# Altium integrated library Linear Technology Power Management PMIC Multifunction.IntLib: 360 symbols (part 10 of 42)
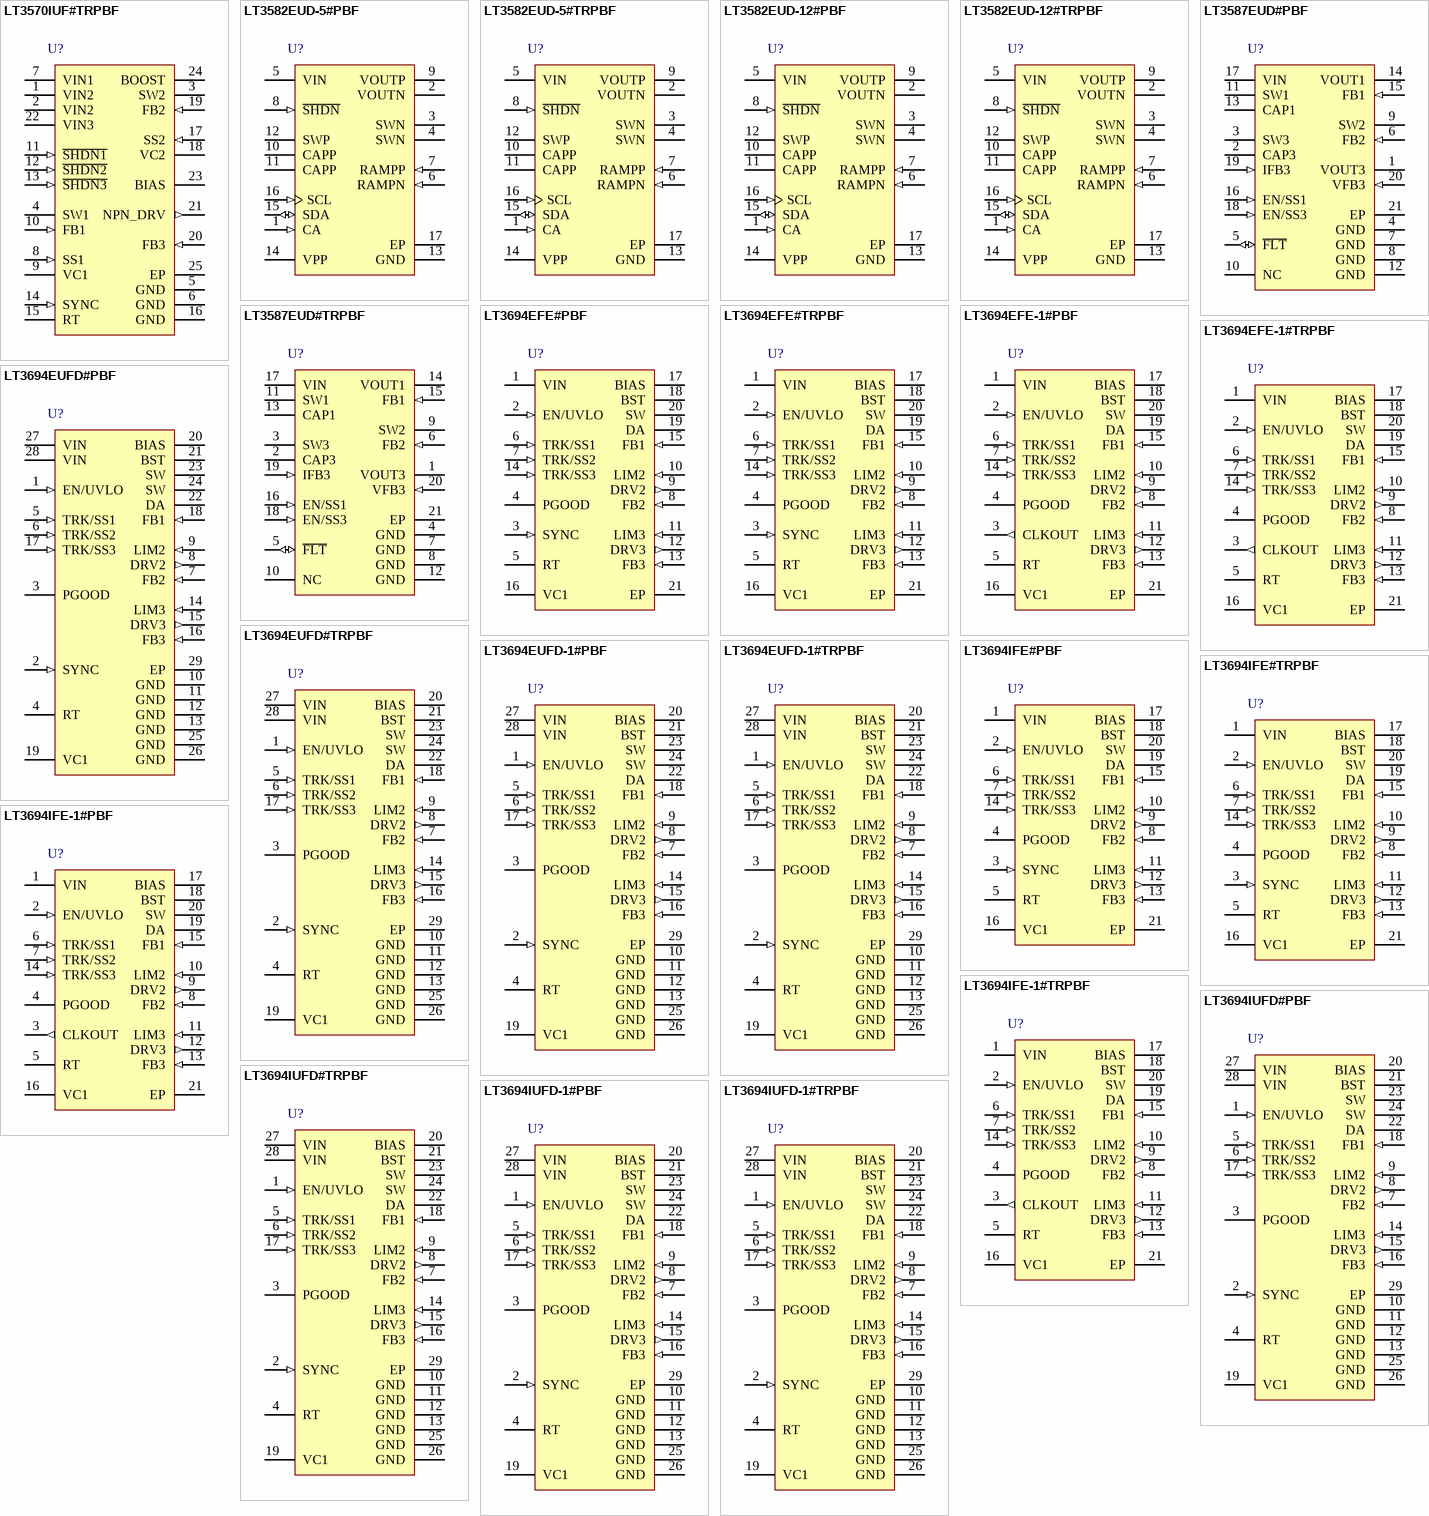
[diagram p27: symbols LT3570IUF#TRPBF to LT3694IUFD-1#TRPBF]

## LT3694EUFD-1#PBF
designator U?
2.6 A Monolithic Buck Regulator with Dual LDO, 4 to 36 V Vin, 28-pin QFN (UFD-28), -40 to 125 degC, Pb-Free; Manufacturer: Linear Technology; PartNumber: LT3694EUFD-1#PBF; Number of Outputs: 3; Vin Max(V): 36; Vin Min(V): 4; DatasheetVersion: Rev. B; PackageVersion: Rev. B, 06/2010; PackageReference: UFD-28; PackageDescription: 28-Pin Plastic QFN, Body 5 x 4 mm, Pitch 0.5 mm; Supplier 1: Digi-Key; Supplier Part Number 1: LT3694EUFD-1#PBF-ND; Supplier 2: Farnell; Supplier Part Number 2: 1868082; Supplier 3: Newark; Supplier Part Number 3: 13T8528; RoHS: TRUE; Mounting Technology: Surface Mount; Code_JEDEC: MO-220; ComponentLink1Description: Manufacturer URL; ComponentLink1URL: http://www.linear.com/; ComponentLink2Description: Datasheet; ComponentLink2URL: http://cds.linear.com/docs/en/datasheet/36941fb.pdf; ComponentLink3Description: Package Specification; ComponentLink3URL: http://cds.linear.com/docs/en/packaging/QFN_28_05-08-1712.pdf
footprint LT-UFD-28_N (QFN, 28-Leads, Body 5.1x4.1mm, Pitch 0.5mm, Thermal Pad 3.65x2.65mm, IPC Medium Density)
footprint LT-UFD-28_L (QFN, 28-Leads, Body 5.1x4.1mm, Pitch 0.5mm, Thermal Pad 3.65x2.65mm, IPC High Density)
footprint LT-UFD-28_M (QFN, 28-Leads, Body 5.1x4.1mm, Pitch 0.5mm, Thermal Pad 3.65x2.65mm, IPC Low Density)
pins: 1 EN/UVLO (in) "The EN/UVLO pin is used to shut down the LT3694. It can be driven from a logic level or used as an undervoltage lockout by connecting a resistor divider from VIN.", 2 SYNC (in) "Frequency Synchronization Input. Connect a frequency source to this input if synchronization is desired. Connect SYNC to ground if not used", 3 PGOOD (oc) "Open Collector Output. PGOOD is pulled low when any of the three regulators drops out of regulation (VFB < 90% of nominal value).", 4 RT "The RT pin requires a resistor to ground to set the operating frequency of the LT3694. If synchronizing the LT3694 to an external clock, the resistor should be set to program the frequency at least 20% below the (See Datasheet)", 5 TRK/SS1 (in) "The TRK/SS pins allow a regulator to track the output of another regulator. When the TRK/SS pin is below 0.75V, the FB pin regulates to the TRK/SS voltage. This pin can also be used as a soft-start by connecting a capacitor (See Datasheet)", 6 TRK/SS2 (in) "The TRK/SS pins allow a regulator to track the output of another regulator. When the TRK/SS pin is below 0.75V, the FB pin regulates to the TRK/SS voltage. This pin can also be used as a soft-start by connecting a capacitor (See Datasheet)", 7 FB2 (in) "Negative Inputs of the Error Amplifiers. The LT3694 regulates each feedback pin to the lesser of 0.75V or the corresponding TRK/SS pin voltage. Connect the feedback resistor divider taps to these pins.", 8 DRV2 (out) "The DRV pins provide the base drive for the external NPN transistorfor the LDO regulators. The DRV pins can provide up to 6V of base drive.", 9 LIM2 (in) "The LIM pins provide current limiting on the LDO pass transistors by sensing a voltage on an external sense resistor connected to the BIAS pin. These pins should be connected to BIAS if this function is not used.", 10 GND (power) "Power and Signal Ground.", 11 GND (power) "Power and Signal Ground.", 12 GND (power) "Power and Signal Ground.", 13 GND (power) "Power and Signal Ground.", 14 LIM3 (in) "The LIM pins provide current limiting on the LDO pass transistors by sensing a voltage on an external sense resistor connected to the BIAS pin. These pins should be connected to BIAS if this function is not used.", 15 DRV3 (out) "The DRV pins provide the base drive for the external NPN transistorfor the LDO regulators. The DRV pins can provide up to 6V of base drive.", 16 FB3 (in) "Negative Inputs of the Error Amplifiers. The LT3694 regulates each feedback pin to the lesser of 0.75V or the corresponding TRK/SS pin voltage. Connect the feedback resistor divider taps to these pins.", 17 TRK/SS3 (in) "The TRK/SS pins allow a regulator to track the output of another regulator. When the TRK/SS pin is below 0.75V, the FB pin regulates to the TRK/SS voltage. This pin can also be used as a soft-start by connecting a capacitor (See Datasheet)", 18 FB1 (in) "Negative Inputs of the Error Amplifiers. The LT3694 regulates each feedback pin to the lesser of 0.75V or the corresponding TRK/SS pin voltage. Connect the feedback resistor divider taps to these pins.", 19 VC1 "Output of the Internal Error Amp. The voltage on this pin controls the peak switch current. This pin is normally used to compensate the control loop. The switching regulator can be shut down by pulling the VC1 pin to ground (See Datasheet)", 20 BIAS (power) "The BIAS pin supplies the current to the LT3694’s internal regulator and boost circuits. This must be connected to a voltage source above 3V, usually to VOUT1. The LDO pass transistor base current will also come from th(See Datasheet)", 21 BST "The BST pin is used to provide a drive voltage, higher than the input voltage, to the internal bipolar NPN power switch.", 22 DA "The DA pin senses the catch diode current to prevent excessive inductor current in output overload or short-circuit conditions.", 23 SW (power) "Output of the Internal Power Switch. Connect this pin to the inductor and switching diode.", 24 SW (power) "Output of the Internal Power Switch. Connect this pin to the inductor and switching diode.", 25 GND (power) "Power and Signal Ground.", 26 GND (power) "Power and Signal Ground.", 27 VIN (power) "The VIN pin supplies power to the internal switch of the 2.6A regulator and to the LT3694’s internal reference and start-up circuitry. This pin must be locally bypassed.", 28 VIN (power) "The VIN pin supplies power to the internal switch of the 2.6A regulator and to the LT3694’s internal reference and start-up circuitry. This pin must be locally bypassed.", 29 EP (power) "Ground. The underside exposed pad metal of the package provides both electrical contact to ground and a conductive thermal path to the printed circuit board. The Exposed Pad must be soldered to a grounded pad on the circuit (See Datasheet)"

## LT3694EUFD-1#TRPBF
designator U?
2.6 A Monolithic Buck Regulator with Dual LDO, 4 to 36 V Vin, 28-pin QFN (UFD-28), -40 to 125 degC, Pb-Free, Tape and Reel; Manufacturer: Linear Technology; PartNumber: LT3694EUFD-1#TRPBF; Number of Outputs: 3; Vin Max(V): 36; Vin Min(V): 4; DatasheetVersion: Rev. B; PackageVersion: Rev. B, 06/2010; PackageReference: UFD-28; PackageDescription: 28-Pin Plastic QFN, Body 5 x 4 mm, Pitch 0.5 mm; Supplier 1: Digi-Key; Supplier Part Number 1: LT3694EUFD-1#TRPBF-ND; Packing: Tape and Reel; RoHS: TRUE; Mounting Technology: Surface Mount; Code_JEDEC: MO-220; ComponentLink1Description: Manufacturer URL; ComponentLink1URL: http://www.linear.com/; ComponentLink2Description: Datasheet; ComponentLink2URL: http://cds.linear.com/docs/en/datasheet/36941fb.pdf; ComponentLink3Description: Package Specification; ComponentLink3URL: http://cds.linear.com/docs/en/packaging/QFN_28_05-08-1712.pdf
footprint LT-UFD-28_N (QFN, 28-Leads, Body 5.1x4.1mm, Pitch 0.5mm, Thermal Pad 3.65x2.65mm, IPC Medium Density)
footprint LT-UFD-28_L (QFN, 28-Leads, Body 5.1x4.1mm, Pitch 0.5mm, Thermal Pad 3.65x2.65mm, IPC High Density)
footprint LT-UFD-28_M (QFN, 28-Leads, Body 5.1x4.1mm, Pitch 0.5mm, Thermal Pad 3.65x2.65mm, IPC Low Density)
pins: 1 EN/UVLO (in) "The EN/UVLO pin is used to shut down the LT3694. It can be driven from a logic level or used as an undervoltage lockout by connecting a resistor divider from VIN.", 2 SYNC (in) "Frequency Synchronization Input. Connect a frequency source to this input if synchronization is desired. Connect SYNC to ground if not used", 3 PGOOD (oc) "Open Collector Output. PGOOD is pulled low when any of the three regulators drops out of regulation (VFB < 90% of nominal value).", 4 RT "The RT pin requires a resistor to ground to set the operating frequency of the LT3694. If synchronizing the LT3694 to an external clock, the resistor should be set to program the frequency at least 20% below the (See Datasheet)", 5 TRK/SS1 (in) "The TRK/SS pins allow a regulator to track the output of another regulator. When the TRK/SS pin is below 0.75V, the FB pin regulates to the TRK/SS voltage. This pin can also be used as a soft-start by connecting a capacitor (See Datasheet)", 6 TRK/SS2 (in) "The TRK/SS pins allow a regulator to track the output of another regulator. When the TRK/SS pin is below 0.75V, the FB pin regulates to the TRK/SS voltage. This pin can also be used as a soft-start by connecting a capacitor (See Datasheet)", 7 FB2 (in) "Negative Inputs of the Error Amplifiers. The LT3694 regulates each feedback pin to the lesser of 0.75V or the corresponding TRK/SS pin voltage. Connect the feedback resistor divider taps to these pins.", 8 DRV2 (out) "The DRV pins provide the base drive for the external NPN transistorfor the LDO regulators. The DRV pins can provide up to 6V of base drive.", 9 LIM2 (in) "The LIM pins provide current limiting on the LDO pass transistors by sensing a voltage on an external sense resistor connected to the BIAS pin. These pins should be connected to BIAS if this function is not used.", 10 GND (power) "Power and Signal Ground.", 11 GND (power) "Power and Signal Ground.", 12 GND (power) "Power and Signal Ground.", 13 GND (power) "Power and Signal Ground.", 14 LIM3 (in) "The LIM pins provide current limiting on the LDO pass transistors by sensing a voltage on an external sense resistor connected to the BIAS pin. These pins should be connected to BIAS if this function is not used.", 15 DRV3 (out) "The DRV pins provide the base drive for the external NPN transistorfor the LDO regulators. The DRV pins can provide up to 6V of base drive.", 16 FB3 (in) "Negative Inputs of the Error Amplifiers. The LT3694 regulates each feedback pin to the lesser of 0.75V or the corresponding TRK/SS pin voltage. Connect the feedback resistor divider taps to these pins.", 17 TRK/SS3 (in) "The TRK/SS pins allow a regulator to track the output of another regulator. When the TRK/SS pin is below 0.75V, the FB pin regulates to the TRK/SS voltage. This pin can also be used as a soft-start by connecting a capacitor (See Datasheet)", 18 FB1 (in) "Negative Inputs of the Error Amplifiers. The LT3694 regulates each feedback pin to the lesser of 0.75V or the corresponding TRK/SS pin voltage. Connect the feedback resistor divider taps to these pins.", 19 VC1 "Output of the Internal Error Amp. The voltage on this pin controls the peak switch current. This pin is normally used to compensate the control loop. The switching regulator can be shut down by pulling the VC1 pin to ground (See Datasheet)", 20 BIAS (power) "The BIAS pin supplies the current to the LT3694’s internal regulator and boost circuits. This must be connected to a voltage source above 3V, usually to VOUT1. The LDO pass transistor base current will also come from th(See Datasheet)", 21 BST "The BST pin is used to provide a drive voltage, higher than the input voltage, to the internal bipolar NPN power switch.", 22 DA "The DA pin senses the catch diode current to prevent excessive inductor current in output overload or short-circuit conditions.", 23 SW (power) "Output of the Internal Power Switch. Connect this pin to the inductor and switching diode.", 24 SW (power) "Output of the Internal Power Switch. Connect this pin to the inductor and switching diode.", 25 GND (power) "Power and Signal Ground.", 26 GND (power) "Power and Signal Ground.", 27 VIN (power) "The VIN pin supplies power to the internal switch of the 2.6A regulator and to the LT3694’s internal reference and start-up circuitry. This pin must be locally bypassed.", 28 VIN (power) "The VIN pin supplies power to the internal switch of the 2.6A regulator and to the LT3694’s internal reference and start-up circuitry. This pin must be locally bypassed.", 29 EP (power) "Ground. The underside exposed pad metal of the package provides both electrical contact to ground and a conductive thermal path to the printed circuit board. The Exposed Pad must be soldered to a grounded pad on the circuit (See Datasheet)"

## LT3694IFE#PBF
designator U?
2.6 A Monolithic Buck Regulator with Dual LDO, 4 to 36 V Vin, 20-pin SOP (FE-20-EPV-CB), -40 to 125 degC, Pb-Free; Manufacturer: Linear Technology; PartNumber: LT3694IFE#PBF; Number of Outputs: 3; Vin Max(V): 36; Vin Min(V): 4; DatasheetVersion: Rev. B; PackageVersion: Rev. I, 05/2011; PackageReference: FE-20; PackageDescription: 20-Pin Plastic TSSOP, Body 6.5 x 4.4 mm, Pitch 0.65 mm; Supplier 1: Digi-Key; Supplier Part Number 1: LT3694IFE#PBF-ND; RoHS: TRUE; Mounting Technology: Surface Mount; ComponentLink1Description: Manufacturer URL; ComponentLink1URL: http://www.linear.com/; ComponentLink2Description: Datasheet; ComponentLink2URL: http://cds.linear.com/docs/en/datasheet/36941fb.pdf; ComponentLink3Description: Package Specification; ComponentLink3URL: http://cds.linear.com/docs/en/packaging/05081663__J_FE20(CB).pdf
footprint LT-FE-20-EPV-CB_N (SOP, 20-Leads, Body 6.6x4.5mm, Pitch 0.65mm, Thermal Pad 3.86x2.74mm, IPC Medium Density)
footprint LT-FE-20-EPV-CB_L (SOP, 20-Leads, Body 6.6x4.5mm, Pitch 0.65mm, Thermal Pad 3.86x2.74mm, IPC High Density)
footprint LT-FE-20-EPV-CB_M (SOP, 20-Leads, Body 6.6x4.5mm, Pitch 0.65mm, Thermal Pad 3.86x2.74mm, IPC Low Density)
pins: 1 VIN (power) "The VIN pin supplies power to the internal switch of the 2.6A regulator and to the LT3694’s internal reference and start-up circuitry. This pin must be locally bypassed.", 2 EN/UVLO (in) "The EN/UVLO pin is used to shut down the LT3694. It can be driven from a logic level or used as an undervoltage lockout by connecting a resistor divider from VIN.", 3 SYNC (in) "Frequency Synchronization Input. Connect a frequency source to this input if synchronization is desired. Connect SYNC to ground if not used (LT3694 only).", 4 PGOOD (oc) "Open Collector Output. PGOOD is pulled low when any of the three regulators drops out of regulation (VFB < 90% of nominal value).", 5 RT "The RT pin requires a resistor to ground to set the operating frequency of the LT3694. If synchronizing the LT3694 to an external clock, the resistor should be set to program the frequency at least 20% below the (See Datasheet)", 6 TRK/SS1 (in) "The TRK/SS pins allow a regulator to track the output of another regulator. When the TRK/SS pin is below 0.75V, the FB pin regulates to the TRK/SS voltage. This pin can also be used as a soft-start by connecting a capacitor (See Datasheet)", 7 TRK/SS2 (in) "The TRK/SS pins allow a regulator to track the output of another regulator. When the TRK/SS pin is below 0.75V, the FB pin regulates to the TRK/SS voltage. This pin can also be used as a soft-start by connecting a capacitor (See Datasheet)", 8 FB2 (in) "Negative Inputs of the Error Amplifiers. The LT3694 regulates each feedback pin to the lesser of 0.75V or the corresponding TRK/SS pin voltage. Connect the feedback resistor divider taps to these pins.", 9 DRV2 (out) "The DRV pins provide the base drive for the external NPN transistors for the LDO regulators. The DRV pins can provide up to 6V of base drive.", 10 LIM2 (in) "The LIM pins provide current limiting on the LDO pass transistors by sensing a voltage on an external sense resistor connected to the BIAS pin. These pins should be connected to BIAS if this function is not used.", 11 LIM3 (in) "The LIM pins provide current limiting on the LDO pass transistors by sensing a voltage on an external sense resistor connected to the BIAS pin. These pins should be connected to BIAS if this function is not used.", 12 DRV3 (out) "The DRV pins provide the base drive for the external NPN transistors for the LDO regulators. The DRV pins can provide up to 6V of base drive.", 13 FB3 (in) "Negative Inputs of the Error Amplifiers. The LT3694 regulates each feedback pin to the lesser of 0.75V or the corresponding TRK/SS pin voltage. Connect the feedback resistor divider taps to these pins.", 14 TRK/SS3 (in) "The TRK/SS pins allow a regulator to track the output of another regulator. When the TRK/SS pin is below 0.75V, the FB pin regulates to the TRK/SS voltage. This pin can also be used as a soft-start by connecting a capacitor (See Datasheet)", 15 FB1 (in) "Negative Inputs of the Error Amplifiers. The LT3694 regulates each feedback pin to the lesser of 0.75V or the corresponding TRK/SS pin voltage. Connect the feedback resistor divider taps to these pins.", 16 VC1 "Output of the Internal Error Amp. The voltage on this pin controls the peak switch current. This pin is normally used to compensate the control loop. The switching regulator can be shut down by pulling the VC1 pin to ground (See Datasheet)", 17 BIAS (power) "The BIAS pin supplies the current to the LT3694’s internal regulator and boost circuits. This must be connected to a voltage source above 3V, usually to VOUT1. The LDO pass transistor base current will also come from th(See Datasheet)", 18 BST "The BST pin is used to provide a drive voltage, higher than the input voltage, to the internal bipolar NPN power switch.", 19 DA "The DA pin senses the catch diode current to prevent excessive inductor current in output overload or short-circuit conditions.", 20 SW (power) "Output of the Internal Power Switch. Connect this pin to the inductor and switching diode.", 21 EP (power) "Ground. The underside exposed pad metal of the package provides both electrical contact to ground and a conductive thermal path to the printed circuit board. The Exposed Pad must be soldered to a grounded pad on the circuit (See Datasheet)"

## LT3694IFE#TRPBF
designator U?
2.6 A Monolithic Buck Regulator with Dual LDO, 4 to 36 V Vin, 20-pin SOP (FE-20-EPV-CB), -40 to 125 degC, Pb-Free, Tape and Reel; Manufacturer: Linear Technology; PartNumber: LT3694IFE#TRPBF; Number of Outputs: 3; Vin Max(V): 36; Vin Min(V): 4; DatasheetVersion: Rev. B; PackageVersion: Rev. I, 05/2011; PackageReference: FE-20; PackageDescription: 20-Pin Plastic TSSOP, Body 6.5 x 4.4 mm, Pitch 0.65 mm; Supplier 1: Digi-Key; Supplier Part Number 1: LT3694IFE#TRPBF-ND; Packing: Tape and Reel; RoHS: TRUE; Mounting Technology: Surface Mount; ComponentLink1Description: Manufacturer URL; ComponentLink1URL: http://www.linear.com/; ComponentLink2Description: Datasheet; ComponentLink2URL: http://cds.linear.com/docs/en/datasheet/36941fb.pdf; ComponentLink3Description: Package Specification; ComponentLink3URL: http://cds.linear.com/docs/en/packaging/05081663__J_FE20(CB).pdf
footprint LT-FE-20-EPV-CB_N (SOP, 20-Leads, Body 6.6x4.5mm, Pitch 0.65mm, Thermal Pad 3.86x2.74mm, IPC Medium Density)
footprint LT-FE-20-EPV-CB_L (SOP, 20-Leads, Body 6.6x4.5mm, Pitch 0.65mm, Thermal Pad 3.86x2.74mm, IPC High Density)
footprint LT-FE-20-EPV-CB_M (SOP, 20-Leads, Body 6.6x4.5mm, Pitch 0.65mm, Thermal Pad 3.86x2.74mm, IPC Low Density)
pins: 1 VIN (power) "The VIN pin supplies power to the internal switch of the 2.6A regulator and to the LT3694’s internal reference and start-up circuitry. This pin must be locally bypassed.", 2 EN/UVLO (in) "The EN/UVLO pin is used to shut down the LT3694. It can be driven from a logic level or used as an undervoltage lockout by connecting a resistor divider from VIN.", 3 SYNC (in) "Frequency Synchronization Input. Connect a frequency source to this input if synchronization is desired. Connect SYNC to ground if not used (LT3694 only).", 4 PGOOD (oc) "Open Collector Output. PGOOD is pulled low when any of the three regulators drops out of regulation (VFB < 90% of nominal value).", 5 RT "The RT pin requires a resistor to ground to set the operating frequency of the LT3694. If synchronizing the LT3694 to an external clock, the resistor should be set to program the frequency at least 20% below the (See Datasheet)", 6 TRK/SS1 (in) "The TRK/SS pins allow a regulator to track the output of another regulator. When the TRK/SS pin is below 0.75V, the FB pin regulates to the TRK/SS voltage. This pin can also be used as a soft-start by connecting a capacitor (See Datasheet)", 7 TRK/SS2 (in) "The TRK/SS pins allow a regulator to track the output of another regulator. When the TRK/SS pin is below 0.75V, the FB pin regulates to the TRK/SS voltage. This pin can also be used as a soft-start by connecting a capacitor (See Datasheet)", 8 FB2 (in) "Negative Inputs of the Error Amplifiers. The LT3694 regulates each feedback pin to the lesser of 0.75V or the corresponding TRK/SS pin voltage. Connect the feedback resistor divider taps to these pins.", 9 DRV2 (out) "The DRV pins provide the base drive for the external NPN transistors for the LDO regulators. The DRV pins can provide up to 6V of base drive.", 10 LIM2 (in) "The LIM pins provide current limiting on the LDO pass transistors by sensing a voltage on an external sense resistor connected to the BIAS pin. These pins should be connected to BIAS if this function is not used.", 11 LIM3 (in) "The LIM pins provide current limiting on the LDO pass transistors by sensing a voltage on an external sense resistor connected to the BIAS pin. These pins should be connected to BIAS if this function is not used.", 12 DRV3 (out) "The DRV pins provide the base drive for the external NPN transistors for the LDO regulators. The DRV pins can provide up to 6V of base drive.", 13 FB3 (in) "Negative Inputs of the Error Amplifiers. The LT3694 regulates each feedback pin to the lesser of 0.75V or the corresponding TRK/SS pin voltage. Connect the feedback resistor divider taps to these pins.", 14 TRK/SS3 (in) "The TRK/SS pins allow a regulator to track the output of another regulator. When the TRK/SS pin is below 0.75V, the FB pin regulates to the TRK/SS voltage. This pin can also be used as a soft-start by connecting a capacitor (See Datasheet)", 15 FB1 (in) "Negative Inputs of the Error Amplifiers. The LT3694 regulates each feedback pin to the lesser of 0.75V or the corresponding TRK/SS pin voltage. Connect the feedback resistor divider taps to these pins.", 16 VC1 "Output of the Internal Error Amp. The voltage on this pin controls the peak switch current. This pin is normally used to compensate the control loop. The switching regulator can be shut down by pulling the VC1 pin to ground (See Datasheet)", 17 BIAS (power) "The BIAS pin supplies the current to the LT3694’s internal regulator and boost circuits. This must be connected to a voltage source above 3V, usually to VOUT1. The LDO pass transistor base current will also come from th(See Datasheet)", 18 BST "The BST pin is used to provide a drive voltage, higher than the input voltage, to the internal bipolar NPN power switch.", 19 DA "The DA pin senses the catch diode current to prevent excessive inductor current in output overload or short-circuit conditions.", 20 SW (power) "Output of the Internal Power Switch. Connect this pin to the inductor and switching diode.", 21 EP (power) "Ground. The underside exposed pad metal of the package provides both electrical contact to ground and a conductive thermal path to the printed circuit board. The Exposed Pad must be soldered to a grounded pad on the circuit (See Datasheet)"

## LT3694IFE-1#PBF
designator U?
2.6 A Monolithic Buck Regulator with Dual LDO, 4 to 36 V Vin, 20-pin SOP (FE-20-EPV-CB), -40 to 125 degC, Pb-Free; Manufacturer: Linear Technology; PartNumber: LT3694IFE-1#PBF; Number of Outputs: 3; Vin Max(V): 36; Vin Min(V): 4; DatasheetVersion: Rev. B; PackageVersion: Rev. I, 05/2011; PackageReference: FE-20; PackageDescription: 20-Pin Plastic TSSOP, Body 6.5 x 4.4 mm, Pitch 0.65 mm; Supplier 1: Digi-Key; Supplier Part Number 1: LT3694IFE-1#PBF-ND; RoHS: TRUE; Mounting Technology: Surface Mount; ComponentLink1Description: Manufacturer URL; ComponentLink1URL: http://www.linear.com/; ComponentLink2Description: Datasheet; ComponentLink2URL: http://cds.linear.com/docs/en/datasheet/36941fb.pdf; ComponentLink3Description: Package Specification; ComponentLink3URL: http://cds.linear.com/docs/en/packaging/05081663__J_FE20(CB).pdf
footprint LT-FE-20-EPV-CB_N (SOP, 20-Leads, Body 6.6x4.5mm, Pitch 0.65mm, Thermal Pad 3.86x2.74mm, IPC Medium Density)
footprint LT-FE-20-EPV-CB_L (SOP, 20-Leads, Body 6.6x4.5mm, Pitch 0.65mm, Thermal Pad 3.86x2.74mm, IPC High Density)
footprint LT-FE-20-EPV-CB_M (SOP, 20-Leads, Body 6.6x4.5mm, Pitch 0.65mm, Thermal Pad 3.86x2.74mm, IPC Low Density)
pins: 1 VIN (power) "The VIN pin supplies power to the internal switch of the 2.6A regulator and to the LT3694’s internal reference and start-up circuitry. This pin must be locally bypassed.", 2 EN/UVLO (in) "The EN/UVLO pin is used to shut down the LT3694. It can be driven from a logic level or used as an undervoltage lockout by connecting a resistor divider from VIN.", 3 CLKOUT (out) "Digital Clock Output. The CLKOUT pin allows synchronization of other switching regulators (LT3694-1 only).", 4 PGOOD (oc) "Open Collector Output. PGOOD is pulled low when any of the three regulators drops out of regulation (VFB < 90% of nominal value).", 5 RT "The RT pin requires a resistor to ground to set the operating frequency of the LT3694. If synchronizing the LT3694 to an external clock, the resistor should be set to program the frequency at least 20% below the (See Datasheet)", 6 TRK/SS1 (in) "The TRK/SS pins allow a regulator to track the output of another regulator. When the TRK/SS pin is below 0.75V, the FB pin regulates to the TRK/SS voltage. This pin can also be used as a soft-start by connecting a capacitor (See Datasheet)", 7 TRK/SS2 (in) "The TRK/SS pins allow a regulator to track the output of another regulator. When the TRK/SS pin is below 0.75V, the FB pin regulates to the TRK/SS voltage. This pin can also be used as a soft-start by connecting a capacitor (See Datasheet)", 8 FB2 (in) "Negative Inputs of the Error Amplifiers. The LT3694 regulates each feedback pin to the lesser of 0.75V or the corresponding TRK/SS pin voltage. Connect the feedback resistor divider taps to these pins.", 9 DRV2 (out) "The DRV pins provide the base drive for the external NPN transistors for the LDO regulators. The DRV pins can provide up to 6V of base drive.", 10 LIM2 (in) "The LIM pins provide current limiting on the LDO pass transistors by sensing a voltage on an external sense resistor connected to the BIAS pin. These pins should be connected to BIAS if this function is not used.", 11 LIM3 (in) "The LIM pins provide current limiting on the LDO pass transistors by sensing a voltage on an external sense resistor connected to the BIAS pin. These pins should be connected to BIAS if this function is not used.", 12 DRV3 (out) "The DRV pins provide the base drive for the external NPN transistors for the LDO regulators. The DRV pins can provide up to 6V of base drive.", 13 FB3 (in) "Negative Inputs of the Error Amplifiers. The LT3694 regulates each feedback pin to the lesser of 0.75V or the corresponding TRK/SS pin voltage. Connect the feedback resistor divider taps to these pins.", 14 TRK/SS3 (in) "The TRK/SS pins allow a regulator to track the output of another regulator. When the TRK/SS pin is below 0.75V, the FB pin regulates to the TRK/SS voltage. This pin can also be used as a soft-start by connecting a capacitor (See Datasheet)", 15 FB1 (in) "Negative Inputs of the Error Amplifiers. The LT3694 regulates each feedback pin to the lesser of 0.75V or the corresponding TRK/SS pin voltage. Connect the feedback resistor divider taps to these pins.", 16 VC1 "Output of the Internal Error Amp. The voltage on this pin controls the peak switch current. This pin is normally used to compensate the control loop. The switching regulator can be shut down by pulling the VC1 pin to ground (See Datasheet)", 17 BIAS (power) "The BIAS pin supplies the current to the LT3694’s internal regulator and boost circuits. This must be connected to a voltage source above 3V, usually to VOUT1. The LDO pass transistor base current will also come from th(See Datasheet)", 18 BST "The BST pin is used to provide a drive voltage, higher than the input voltage, to the internal bipolar NPN power switch.", 19 DA "The DA pin senses the catch diode current to prevent excessive inductor current in output overload or short-circuit conditions.", 20 SW (power) "Output of the Internal Power Switch. Connect this pin to the inductor and switching diode.", 21 EP (power) "Ground. The underside exposed pad metal of the package provides both electrical contact to ground and a conductive thermal path to the printed circuit board. The Exposed Pad must be soldered to a grounded pad on the circuit (See Datasheet)"

## LT3694IFE-1#TRPBF
designator U?
2.6 A Monolithic Buck Regulator with Dual LDO, 4 to 36 V Vin, 20-pin SOP (FE-20-EPV-CB), -40 to 125 degC, Pb-Free, Tape and Reel; Manufacturer: Linear Technology; PartNumber: LT3694IFE-1#TRPBF; Number of Outputs: 3; Vin Max(V): 36; Vin Min(V): 4; DatasheetVersion: Rev. B; PackageVersion: Rev. I, 05/2011; PackageReference: FE-20; PackageDescription: 20-Pin Plastic TSSOP, Body 6.5 x 4.4 mm, Pitch 0.65 mm; Supplier 1: Digi-Key; Supplier Part Number 1: LT3694IFE-1#TRPBF-ND; Packing: Tape and Reel; RoHS: TRUE; Mounting Technology: Surface Mount; ComponentLink1Description: Manufacturer URL; ComponentLink1URL: http://www.linear.com/; ComponentLink2Description: Datasheet; ComponentLink2URL: http://cds.linear.com/docs/en/datasheet/36941fb.pdf; ComponentLink3Description: Package Specification; ComponentLink3URL: http://cds.linear.com/docs/en/packaging/05081663__J_FE20(CB).pdf
footprint LT-FE-20-EPV-CB_N (SOP, 20-Leads, Body 6.6x4.5mm, Pitch 0.65mm, Thermal Pad 3.86x2.74mm, IPC Medium Density)
footprint LT-FE-20-EPV-CB_L (SOP, 20-Leads, Body 6.6x4.5mm, Pitch 0.65mm, Thermal Pad 3.86x2.74mm, IPC High Density)
footprint LT-FE-20-EPV-CB_M (SOP, 20-Leads, Body 6.6x4.5mm, Pitch 0.65mm, Thermal Pad 3.86x2.74mm, IPC Low Density)
pins: 1 VIN (power) "The VIN pin supplies power to the internal switch of the 2.6A regulator and to the LT3694’s internal reference and start-up circuitry. This pin must be locally bypassed.", 2 EN/UVLO (in) "The EN/UVLO pin is used to shut down the LT3694. It can be driven from a logic level or used as an undervoltage lockout by connecting a resistor divider from VIN.", 3 CLKOUT (out) "Digital Clock Output. The CLKOUT pin allows synchronization of other switching regulators (LT3694-1 only).", 4 PGOOD (oc) "Open Collector Output. PGOOD is pulled low when any of the three regulators drops out of regulation (VFB < 90% of nominal value).", 5 RT "The RT pin requires a resistor to ground to set the operating frequency of the LT3694. If synchronizing the LT3694 to an external clock, the resistor should be set to program the frequency at least 20% below the (See Datasheet)", 6 TRK/SS1 (in) "The TRK/SS pins allow a regulator to track the output of another regulator. When the TRK/SS pin is below 0.75V, the FB pin regulates to the TRK/SS voltage. This pin can also be used as a soft-start by connecting a capacitor (See Datasheet)", 7 TRK/SS2 (in) "The TRK/SS pins allow a regulator to track the output of another regulator. When the TRK/SS pin is below 0.75V, the FB pin regulates to the TRK/SS voltage. This pin can also be used as a soft-start by connecting a capacitor (See Datasheet)", 8 FB2 (in) "Negative Inputs of the Error Amplifiers. The LT3694 regulates each feedback pin to the lesser of 0.75V or the corresponding TRK/SS pin voltage. Connect the feedback resistor divider taps to these pins.", 9 DRV2 (out) "The DRV pins provide the base drive for the external NPN transistors for the LDO regulators. The DRV pins can provide up to 6V of base drive.", 10 LIM2 (in) "The LIM pins provide current limiting on the LDO pass transistors by sensing a voltage on an external sense resistor connected to the BIAS pin. These pins should be connected to BIAS if this function is not used.", 11 LIM3 (in) "The LIM pins provide current limiting on the LDO pass transistors by sensing a voltage on an external sense resistor connected to the BIAS pin. These pins should be connected to BIAS if this function is not used.", 12 DRV3 (out) "The DRV pins provide the base drive for the external NPN transistors for the LDO regulators. The DRV pins can provide up to 6V of base drive.", 13 FB3 (in) "Negative Inputs of the Error Amplifiers. The LT3694 regulates each feedback pin to the lesser of 0.75V or the corresponding TRK/SS pin voltage. Connect the feedback resistor divider taps to these pins.", 14 TRK/SS3 (in) "The TRK/SS pins allow a regulator to track the output of another regulator. When the TRK/SS pin is below 0.75V, the FB pin regulates to the TRK/SS voltage. This pin can also be used as a soft-start by connecting a capacitor (See Datasheet)", 15 FB1 (in) "Negative Inputs of the Error Amplifiers. The LT3694 regulates each feedback pin to the lesser of 0.75V or the corresponding TRK/SS pin voltage. Connect the feedback resistor divider taps to these pins.", 16 VC1 "Output of the Internal Error Amp. The voltage on this pin controls the peak switch current. This pin is normally used to compensate the control loop. The switching regulator can be shut down by pulling the VC1 pin to ground (See Datasheet)", 17 BIAS (power) "The BIAS pin supplies the current to the LT3694’s internal regulator and boost circuits. This must be connected to a voltage source above 3V, usually to VOUT1. The LDO pass transistor base current will also come from th(See Datasheet)", 18 BST "The BST pin is used to provide a drive voltage, higher than the input voltage, to the internal bipolar NPN power switch.", 19 DA "The DA pin senses the catch diode current to prevent excessive inductor current in output overload or short-circuit conditions.", 20 SW (power) "Output of the Internal Power Switch. Connect this pin to the inductor and switching diode.", 21 EP (power) "Ground. The underside exposed pad metal of the package provides both electrical contact to ground and a conductive thermal path to the printed circuit board. The Exposed Pad must be soldered to a grounded pad on the circuit (See Datasheet)"

## LT3694IUFD#PBF
designator U?
2.6 A Monolithic Buck Regulator with Dual LDO, 4 to 36 V Vin, 28-pin QFN (UFD-28), -40 to 125 degC, Pb-Free; Manufacturer: Linear Technology; PartNumber: LT3694IUFD#PBF; Number of Outputs: 3; Vin Max(V): 36; Vin Min(V): 4; DatasheetVersion: Rev. B; PackageVersion: Rev. B, 06/2010; PackageReference: UFD-28; PackageDescription: 28-Pin Plastic QFN, Body 5 x 4 mm, Pitch 0.5 mm; Supplier 1: Digi-Key; Supplier Part Number 1: LT3694IUFD#PBF-ND; RoHS: TRUE; Mounting Technology: Surface Mount; Code_JEDEC: MO-220; ComponentLink1Description: Manufacturer URL; ComponentLink1URL: http://www.linear.com/; ComponentLink2Description: Datasheet; ComponentLink2URL: http://cds.linear.com/docs/en/datasheet/36941fb.pdf; ComponentLink3Description: Package Specification; ComponentLink3URL: http://cds.linear.com/docs/en/packaging/QFN_28_05-08-1712.pdf
footprint LT-UFD-28_N (QFN, 28-Leads, Body 5.1x4.1mm, Pitch 0.5mm, Thermal Pad 3.65x2.65mm, IPC Medium Density)
footprint LT-UFD-28_L (QFN, 28-Leads, Body 5.1x4.1mm, Pitch 0.5mm, Thermal Pad 3.65x2.65mm, IPC High Density)
footprint LT-UFD-28_M (QFN, 28-Leads, Body 5.1x4.1mm, Pitch 0.5mm, Thermal Pad 3.65x2.65mm, IPC Low Density)
pins: 1 EN/UVLO (in) "The EN/UVLO pin is used to shut down the LT3694. It can be driven from a logic level or used as an undervoltage lockout by connecting a resistor divider from VIN.", 2 SYNC (in) "Frequency Synchronization Input. Connect a frequency source to this input if synchronization is desired. Connect SYNC to ground if not used", 3 PGOOD (oc) "Open Collector Output. PGOOD is pulled low when any of the three regulators drops out of regulation (VFB < 90% of nominal value).", 4 RT "The RT pin requires a resistor to ground to set the operating frequency of the LT3694. If synchronizing the LT3694 to an external clock, the resistor should be set to program the frequency at least 20% below the (See Datasheet)", 5 TRK/SS1 (in) "The TRK/SS pins allow a regulator to track the output of another regulator. When the TRK/SS pin is below 0.75V, the FB pin regulates to the TRK/SS voltage. This pin can also be used as a soft-start by connecting a capacitor (See Datasheet)", 6 TRK/SS2 (in) "The TRK/SS pins allow a regulator to track the output of another regulator. When the TRK/SS pin is below 0.75V, the FB pin regulates to the TRK/SS voltage. This pin can also be used as a soft-start by connecting a capacitor (See Datasheet)", 7 FB2 (in) "Negative Inputs of the Error Amplifiers. The LT3694 regulates each feedback pin to the lesser of 0.75V or the corresponding TRK/SS pin voltage. Connect the feedback resistor divider taps to these pins.", 8 DRV2 (out) "The DRV pins provide the base drive for the external NPN transistorfor the LDO regulators. The DRV pins can provide up to 6V of base drive.", 9 LIM2 (in) "The LIM pins provide current limiting on the LDO pass transistors by sensing a voltage on an external sense resistor connected to the BIAS pin. These pins should be connected to BIAS if this function is not used.", 10 GND (power) "Power and Signal Ground.", 11 GND (power) "Power and Signal Ground.", 12 GND (power) "Power and Signal Ground.", 13 GND (power) "Power and Signal Ground.", 14 LIM3 (in) "The LIM pins provide current limiting on the LDO pass transistors by sensing a voltage on an external sense resistor connected to the BIAS pin. These pins should be connected to BIAS if this function is not used.", 15 DRV3 (out) "The DRV pins provide the base drive for the external NPN transistorfor the LDO regulators. The DRV pins can provide up to 6V of base drive.", 16 FB3 (in) "Negative Inputs of the Error Amplifiers. The LT3694 regulates each feedback pin to the lesser of 0.75V or the corresponding TRK/SS pin voltage. Connect the feedback resistor divider taps to these pins.", 17 TRK/SS3 (in) "The TRK/SS pins allow a regulator to track the output of another regulator. When the TRK/SS pin is below 0.75V, the FB pin regulates to the TRK/SS voltage. This pin can also be used as a soft-start by connecting a capacitor (See Datasheet)", 18 FB1 (in) "Negative Inputs of the Error Amplifiers. The LT3694 regulates each feedback pin to the lesser of 0.75V or the corresponding TRK/SS pin voltage. Connect the feedback resistor divider taps to these pins.", 19 VC1 "Output of the Internal Error Amp. The voltage on this pin controls the peak switch current. This pin is normally used to compensate the control loop. The switching regulator can be shut down by pulling the VC1 pin to ground (See Datasheet)", 20 BIAS (power) "The BIAS pin supplies the current to the LT3694’s internal regulator and boost circuits. This must be connected to a voltage source above 3V, usually to VOUT1. The LDO pass transistor base current will also come from th(See Datasheet)", 21 BST "The BST pin is used to provide a drive voltage, higher than the input voltage, to the internal bipolar NPN power switch.", 22 DA "The DA pin senses the catch diode current to prevent excessive inductor current in output overload or short-circuit conditions.", 23 SW (power) "Output of the Internal Power Switch. Connect this pin to the inductor and switching diode.", 24 SW (power) "Output of the Internal Power Switch. Connect this pin to the inductor and switching diode.", 25 GND (power) "Power and Signal Ground.", 26 GND (power) "Power and Signal Ground.", 27 VIN (power) "The VIN pin supplies power to the internal switch of the 2.6A regulator and to the LT3694’s internal reference and start-up circuitry. This pin must be locally bypassed.", 28 VIN (power) "The VIN pin supplies power to the internal switch of the 2.6A regulator and to the LT3694’s internal reference and start-up circuitry. This pin must be locally bypassed.", 29 EP (power) "Ground. The underside exposed pad metal of the package provides both electrical contact to ground and a conductive thermal path to the printed circuit board. The Exposed Pad must be soldered to a grounded pad on the circuit (See Datasheet)"

## LT3694IUFD#TRPBF
designator U?
2.6 A Monolithic Buck Regulator with Dual LDO, 4 to 36 V Vin, 28-pin QFN (UFD-28), -40 to 125 degC, Pb-Free, Tape and Reel; Manufacturer: Linear Technology; PartNumber: LT3694IUFD#TRPBF; Number of Outputs: 3; Vin Max(V): 36; Vin Min(V): 4; DatasheetVersion: Rev. B; PackageVersion: Rev. B, 06/2010; PackageReference: UFD-28; PackageDescription: 28-Pin Plastic QFN, Body 5 x 4 mm, Pitch 0.5 mm; Supplier 1: Digi-Key; Supplier Part Number 1: LT3694IUFD#TRPBF-ND; Packing: Tape and Reel; RoHS: TRUE; Mounting Technology: Surface Mount; Code_JEDEC: MO-220; ComponentLink1Description: Manufacturer URL; ComponentLink1URL: http://www.linear.com/; ComponentLink2Description: Datasheet; ComponentLink2URL: http://cds.linear.com/docs/en/datasheet/36941fb.pdf; ComponentLink3Description: Package Specification; ComponentLink3URL: http://cds.linear.com/docs/en/packaging/QFN_28_05-08-1712.pdf
footprint LT-UFD-28_N (QFN, 28-Leads, Body 5.1x4.1mm, Pitch 0.5mm, Thermal Pad 3.65x2.65mm, IPC Medium Density)
footprint LT-UFD-28_L (QFN, 28-Leads, Body 5.1x4.1mm, Pitch 0.5mm, Thermal Pad 3.65x2.65mm, IPC High Density)
footprint LT-UFD-28_M (QFN, 28-Leads, Body 5.1x4.1mm, Pitch 0.5mm, Thermal Pad 3.65x2.65mm, IPC Low Density)
pins: 1 EN/UVLO (in) "The EN/UVLO pin is used to shut down the LT3694. It can be driven from a logic level or used as an undervoltage lockout by connecting a resistor divider from VIN.", 2 SYNC (in) "Frequency Synchronization Input. Connect a frequency source to this input if synchronization is desired. Connect SYNC to ground if not used", 3 PGOOD (oc) "Open Collector Output. PGOOD is pulled low when any of the three regulators drops out of regulation (VFB < 90% of nominal value).", 4 RT "The RT pin requires a resistor to ground to set the operating frequency of the LT3694. If synchronizing the LT3694 to an external clock, the resistor should be set to program the frequency at least 20% below the (See Datasheet)", 5 TRK/SS1 (in) "The TRK/SS pins allow a regulator to track the output of another regulator. When the TRK/SS pin is below 0.75V, the FB pin regulates to the TRK/SS voltage. This pin can also be used as a soft-start by connecting a capacitor (See Datasheet)", 6 TRK/SS2 (in) "The TRK/SS pins allow a regulator to track the output of another regulator. When the TRK/SS pin is below 0.75V, the FB pin regulates to the TRK/SS voltage. This pin can also be used as a soft-start by connecting a capacitor (See Datasheet)", 7 FB2 (in) "Negative Inputs of the Error Amplifiers. The LT3694 regulates each feedback pin to the lesser of 0.75V or the corresponding TRK/SS pin voltage. Connect the feedback resistor divider taps to these pins.", 8 DRV2 (out) "The DRV pins provide the base drive for the external NPN transistorfor the LDO regulators. The DRV pins can provide up to 6V of base drive.", 9 LIM2 (in) "The LIM pins provide current limiting on the LDO pass transistors by sensing a voltage on an external sense resistor connected to the BIAS pin. These pins should be connected to BIAS if this function is not used.", 10 GND (power) "Power and Signal Ground.", 11 GND (power) "Power and Signal Ground.", 12 GND (power) "Power and Signal Ground.", 13 GND (power) "Power and Signal Ground.", 14 LIM3 (in) "The LIM pins provide current limiting on the LDO pass transistors by sensing a voltage on an external sense resistor connected to the BIAS pin. These pins should be connected to BIAS if this function is not used.", 15 DRV3 (out) "The DRV pins provide the base drive for the external NPN transistorfor the LDO regulators. The DRV pins can provide up to 6V of base drive.", 16 FB3 (in) "Negative Inputs of the Error Amplifiers. The LT3694 regulates each feedback pin to the lesser of 0.75V or the corresponding TRK/SS pin voltage. Connect the feedback resistor divider taps to these pins.", 17 TRK/SS3 (in) "The TRK/SS pins allow a regulator to track the output of another regulator. When the TRK/SS pin is below 0.75V, the FB pin regulates to the TRK/SS voltage. This pin can also be used as a soft-start by connecting a capacitor (See Datasheet)", 18 FB1 (in) "Negative Inputs of the Error Amplifiers. The LT3694 regulates each feedback pin to the lesser of 0.75V or the corresponding TRK/SS pin voltage. Connect the feedback resistor divider taps to these pins.", 19 VC1 "Output of the Internal Error Amp. The voltage on this pin controls the peak switch current. This pin is normally used to compensate the control loop. The switching regulator can be shut down by pulling the VC1 pin to ground (See Datasheet)", 20 BIAS (power) "The BIAS pin supplies the current to the LT3694’s internal regulator and boost circuits. This must be connected to a voltage source above 3V, usually to VOUT1. The LDO pass transistor base current will also come from th(See Datasheet)", 21 BST "The BST pin is used to provide a drive voltage, higher than the input voltage, to the internal bipolar NPN power switch.", 22 DA "The DA pin senses the catch diode current to prevent excessive inductor current in output overload or short-circuit conditions.", 23 SW (power) "Output of the Internal Power Switch. Connect this pin to the inductor and switching diode.", 24 SW (power) "Output of the Internal Power Switch. Connect this pin to the inductor and switching diode.", 25 GND (power) "Power and Signal Ground.", 26 GND (power) "Power and Signal Ground.", 27 VIN (power) "The VIN pin supplies power to the internal switch of the 2.6A regulator and to the LT3694’s internal reference and start-up circuitry. This pin must be locally bypassed.", 28 VIN (power) "The VIN pin supplies power to the internal switch of the 2.6A regulator and to the LT3694’s internal reference and start-up circuitry. This pin must be locally bypassed.", 29 EP (power) "Ground. The underside exposed pad metal of the package provides both electrical contact to ground and a conductive thermal path to the printed circuit board. The Exposed Pad must be soldered to a grounded pad on the circuit (See Datasheet)"